# Altium schematic symbol library MetalDetector.SCHLIB: 35 symbols
Pins are listed as number, name and electrical type; pins without a type are passive.

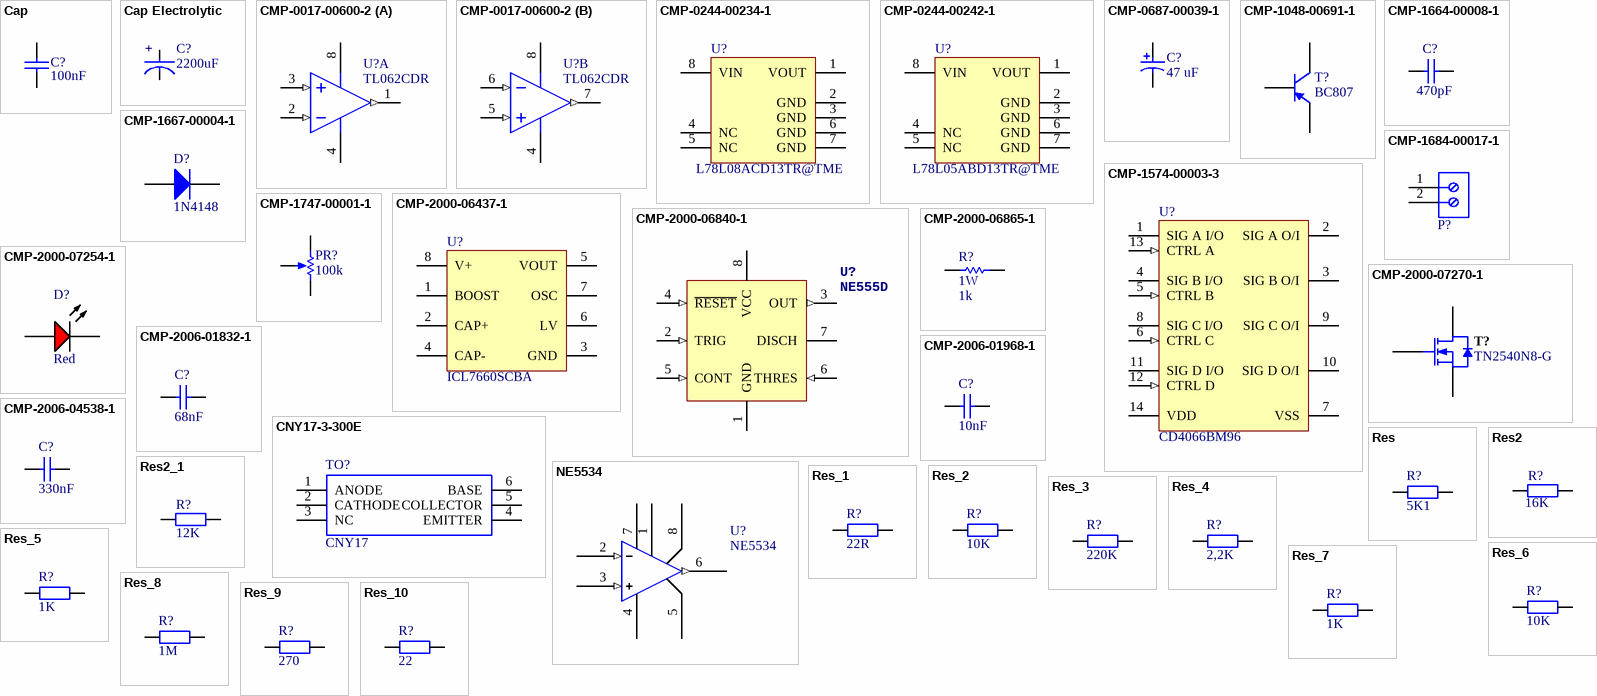
[diagram p0: symbols Cap to Res_10]

## Cap
designator C?, comment Capacitance: 100nF  (hidden comment: CL10B104KA8NNNC@TME)
Capacitor
footprint 0603
pins: 1, 2

## Cap Electrolytic
designator C?  Capacitance: 2200uF  (hidden comment: Cap Electrolytic)
CAPACITOR ALUM 2200UF 20% 35V RADIAL
footprint 18 X 25mm Radial 7.5mm ((18 X 25mm) Radial 7.5mm Cap Aluminum 2200uF 35V 20% 2740mA 5000h 105°C Ammo Pack)
pins: 1 -, 2 +

## CMP-0017-00600-2
designator U?, comment TL062CDR
Dual Low-Power JFET-Input General-Purpose Operational Amplifier, 7 to 36 V, 0 to 70 degC, 8-pin SOIC (D8), Green (RoHS & no Sb/Br); Manufacturer: Texas Instruments; Number of Channels: 2; Total Supply Voltage(Max)(+5V is 5, +/-5V is 10): 36; Vn at 1kHz(Typ)(nV/rtHz): 42; Slew Rate(Typ)(V/us): 3.5; Iq per channel(Max)(mA): 0.25; Offset Drift(Typ)(uV/C): 10; Rating: Catalog; Vio (25C)(Max)(mV): 15; Sub Family: General Purpose Amplifier, High Supply Voltage Amplifier (>=30V), Low Power Amp (<=500uA); Total Supply Voltage(Min)(+5V is 5, +/-5V is 10): 7; CMRR(Min)(dB): 70; GBW(Typ)(MHz): 1; IIB(Max)(pA): 400; ComponentLink2URL: http://www.ti.com/lit/ds/symlink/tl062.pdf; Eco-Plan: Green (RoHS & no Sb/Br); Code_JEDEC: MS-012; ComponentLink3URL: http://www.ti.com/litv/pdf/msoi002j; PackageVersion: 4040047-3/M, 06/2011; Mounting Technology: Surface Mount; DatasheetVersion: SLOS078J; ComponentLink3Description: Package Specification; PartNumber: TL062CDR; ComponentLink2Description: Datasheet; PackageReference: D0008A; PackageDescription: 8-Pin Plastic Small Outline, Body 4.9 x 3.9 mm, Pitch 1.27 mm; ComponentLink1Description: Manufacturer URL; ComponentLink1URL: http://www.ti.com/; Manufacturer Part Number: TL062CDR
footprint D0008A_N (SOIC, 8-Leads, Body 5x4mm, Pitch 1.27mm, IPC Medium Density)
footprint D0008A_L (SOIC, 8-Leads, Body 5x4mm, Pitch 1.27mm, IPC High Density)
footprint D0008A_M (SOIC, 8-Leads, Body 5x4mm, Pitch 1.27mm, IPC Low Density)
pins on every part: 4 VCC- (power), 8 VCC+ (power)
part A pins: 1 OUT1 (out), 2 IN1- (in), 3 IN1+ (in)
part B pins: 5 IN2+ (in), 6 IN2- (in), 7 OUT2 (out)

## CMP-0244-00234-1
designator U?, comment L78L08ACD13TR@TME
Positive Voltage Regulator, 8V, 8-Pin SO, Tape and Reel; Manufacturer: STMicroelectronics; PackageVersion: 1/12/2002; DatasheetVersion: 1/02/2011; Code_IPC: SOIC127P600-8; PackageDescription: 8-Pin Small Outline Integrated Circuit 1.27 mm Pitch; ComponentLink3Description: Package Specification; Code_JEDEC: MS-012-AA; PackageReference: SO8; ComponentLink3URL: http://www.st.com/internet/com/TECHNICAL_RESOURCES/TECHNICAL_LITERATURE/PACKAGE_INFORMATION/CD00004680.pdf; ComponentLink1Description: Manufacturer URL; ComponentLink2Description: Datasheet; ComponentLink2URL: http://www.st.com/internet/com/TECHNICAL_RESOURCES/TECHNICAL_LITERATURE/DATASHEET/CD00000446.pdf; ComponentLink1URL: http://www.st.com; Manufacturer Part Number: L78L08ACD13TR
footprint SO8_M (SOIC, 8-Leads, Body 4.9x3.9mm, Pitch 1.27mm, IPC Low Density)
footprint SO8_L (SOIC, 8-Leads, Body 4.9x3.9mm, Pitch 1.27mm, IPC High Density)
footprint SO8_N (SOIC, 8-Leads, Body 4.9x3.9mm, Pitch 1.27mm, IPC Medium Density)
pins: 1 VOUT (power), 2 GND (power), 3 GND (power), 4 NC, 5 NC, 6 GND (power), 7 GND (power), 8 VIN (power)

## CMP-0244-00242-1
designator U?, comment L78L05ABD13TR@TME
Positive Voltage Regulator, 5V, 8-Pin SO, Tape and Reel; Manufacturer: STMicroelectronics; ComponentLink2URL: http://www.st.com/internet/com/TECHNICAL_RESOURCES/TECHNICAL_LITERATURE/DATASHEET/CD00000446.pdf; ComponentLink3URL: http://www.st.com/internet/com/TECHNICAL_RESOURCES/TECHNICAL_LITERATURE/PACKAGE_INFORMATION/CD00004680.pdf; Code_IPC: SOIC127P600-8; PackageDescription: 8-Pin Small Outline Integrated Circuit 1.27 mm Pitch; ComponentLink3Description: Package Specification; ComponentLink2Description: Datasheet; DatasheetVersion: 1/02/2011; PackageVersion: 1/12/2002; Code_JEDEC: MS-012-AA; ComponentLink1URL: http://www.st.com; ComponentLink1Description: Manufacturer URL; PackageReference: SO8; Manufacturer Part Number: L78L05ABD13TR
footprint SO8_N (SOIC, 8-Leads, Body 4.9x3.9mm, Pitch 1.27mm, IPC Medium Density)
footprint SO8_M (SOIC, 8-Leads, Body 4.9x3.9mm, Pitch 1.27mm, IPC Low Density)
footprint SO8_L (SOIC, 8-Leads, Body 4.9x3.9mm, Pitch 1.27mm, IPC High Density)
pins: 1 VOUT (power), 2 GND (power), 3 GND (power), 4 NC, 5 NC, 6 GND (power), 7 GND (power), 8 VIN (power)

## CMP-0687-00039-1
designator C?, comment Rated Capacitance: 47 uF  (hidden comment: UUD1E470MCL1GS)
Aluminum Electrolytic Capacitor, UD Series, Low Impedance, 47 uF, 25 V, + / - 20%, -55 to 105 degC, Chip Type, 6.3 x 5.8 mm D x L, Pb-Free, Reel; Manufacturer: Nichicon; Rated Ripple Current (at 100kHz): 230 mA; Endurance Time: 2000 h; Packing: Dia382mm Reel; Rated Voltage: 25 V; Impedance: 0.44 Ohm; Tolerance Rated Capacitance: -20 to 20%; Mounting Technology: Surface Mount; Diameter: 6.3 mm; PartNumber: UUD1E470MCL1GS; ComponentLink3Description: Package Specification; ComponentLink2Description: Datasheet; PackageReference: CAPAE-D6.3H5.8; RoHS: TRUE; Length: 5.8 mm; ComponentLink1URL: http://www.nichicon.co.jp/; PackageDescription: 2-Pin Surface Mount Device, Diameter 6.3 mm, Height 5.8 mm, Pitch 5.4 mm; ComponentLink2URL: http://products.nichicon.co.jp/en/pdf/XJA043/e-ud.pdf; ComponentLink1Description: Manufacturer URL; ComponentLink3URL: http://products.nichicon.co.jp/en/pdf/XJA043/e-ud.pdf; DatasheetVersion: 08/2012; Manufacturer Part Number: UUD1E470MCL1GS
footprint NIC-CAPA2-6.3X5.8_V (Aluminum Electrolytic Capacitor, Diameter 6.3mm, Height 6.1mm, Pitch 5.4mm)
pins: 1, 2

## CMP-1048-00691-1
designator T?, comment BC807
General Purpose Transistor, PNP Silicon, 3-Pin SOT-23, Pb-Free, Tape and Reel; Manufacturer: On Semiconductor; PartNumber: BC807-25LT1G; IC Continuous (A): -0.5; fT Min (MHz): 100; PackageDescription: 3-Pin Small Outline Transistor, Body 2.92 x 1.3 mm, Pitch 0.95 mm; Polarity: PNP; ComponentLink2URL: http://www.onsemi.com/pub_link/Collateral/BC807-16LT1-D.PDF; PackageReference: SOT-23-3-318-08; ComponentLink2Description: Datasheet; ComponentLink1Description: Manufacturer URL; ComponentLink3URL: http://www.onsemi.cn/pub_link/Collateral/318-08.PDF; Packing: Tape and Reel; DatasheetVersion: Rev. 10; RoHS: TRUE; ComponentLink3Description: Package Specification; PackageVersion: Rev. AP, 11/2009; ComponentLink1URL: http://www.onsemi.com/; Mounting Technology: Surface Mount; Manufacturer: ON Semiconductor; Manufacturer Part Number: BC807-25LT1G
footprint ONSC-SOT-23-3-318-08_V (SOT23, 3-Leads, Body 2.92x1.3mm, Pitch 0.95mm)
pins: 1 B, 2 E, 3 C

## CMP-1574-00003-3
designator U?, comment CD4066BM96
CMOS Quad Bilateral Switch, D0014A, LARGE T&R; Manufacturer: Texas Instruments; Configuration: 4 X SPST (NO); Crosstalk: Yes; Ron(Max)(Ohms): 240; ICC(Typ)(mA): 0.00002; VCC(Min)(V): 3; Rating: Military; Ron(Typ)(Ohms): 125; Bandwidth(Max)(MHz): 40; VCC(Max)(V): 18; Operating Temperature Range(C): -55 to 125; Code_JEDEC: MS-012; DatasheetVersion: SCHS051D; PackageReference: D0014A; Output Type: CMOS; Generic Part Number: CD4066B; PackageVersion: http://www.ti.com/lit/ml/mpds177g/mpds177g.pdf; Manufacturer Part Number: CD4066BM96
footprint D0014A_M (SOIC, 14-Leads, Body 8.75x4mm, Pitch 1.27mm, IPC Low Density)
footprint D0014A_L (SOIC, 14-Leads, Body 8.75x4mm, Pitch 1.27mm, IPC High Density)
footprint D0014A_N (SOIC, 14-Leads, Body 8.75x4mm, Pitch 1.27mm, IPC Medium Density)
pins: 1 SIG A I/O, 2 SIG A O/I, 3 SIG B O/I, 4 SIG B I/O, 5 CTRL B (in), 6 CTRL C (in), 7 VSS (power), 8 SIG C I/O, 9 SIG C O/I, 10 SIG D O/I, 11 SIG D I/O, 12 CTRL D (in), 13 CTRL A (in), 14 VDD (power)

## CMP-1664-00008-1
designator C?, comment Capacitance: 470pF  (hidden comment: CC-470@TME)
Capacitor, Ceramic, 22 pF, +/-10 %, 100 V, -55 to 125 degC, 2-Pin THD, RoHS, Bulk; Manufacturer: KEMET; Manufacturer Part Number: C315C220K1G5TA; Max Input Voltage: 40 V; Min Input Voltage: 4.2 V; Output Current: 1.5 A; Output Voltage: 1.2 V; Outputs: 1; Case\Package: TO-220; RoHSCompliant: true; Min Operating Temperature: 0 degC; Max Operating Temperature: 125 degC; Package Quantity: 50; ComponentLink2URL: http://capacitoredge.kemet.com/capedge2/DataSheet/Datasheet-C315C220K1G5TA.pdf?pn=C315C220K1G5TA{BULK}; Radiation Hardening: No; Pins: 3; Length: 10.28 mm; ComponentLink1URL: http://www.kemet.com/; ComponentLink2Description: Datasheet; Height: 9.28 mm; REACH SVHC: No SVHC; ComponentLink1Description: Manufacturer URL; Max Ouput Current: 1.5 A; Weight: 0.08113 oz; Packaging: Rail/Tube; DatasheetVersion: Aug-16; Mount: Through Hole; PackageReference: C315-THT-2; Width: 4.82 mm; PackageDescription: 2-Pin Through Hole Device, Body 3.81 x 2.54 mm
footprint KEMT-C315-THT-2 (THD, 2-Leads, Body 3.81x2.54mm)
pins: 1, 2

## CMP-1667-00004-1
designator D?, comment 1N4148
1N4148WS-7-F / Fast Switching Diode, 75 V, 0.3 A, -65 to 150 degC, 2-Pin SOD323, RoHS, Tape and Reel; Manufacturer: Diodes; DatasheetVersion: Rev. 25-2, 03/2016; PackageDescription: 2-Pin Small Outline Diode, Body 1.7 x 1.3 mm; ComponentLink2Description: Datasheet; ComponentLink1URL: http://www.diodes.com/; PackageReference: SOD323-2; ComponentLink2URL: http://www.diodes.com/datasheets/ds30097.pdf; ComponentLink1Description: Manufacturer URL; Manufacturer Part Number: 1N4148WS-7-F
footprint DIOD-SOD323-2-A_V (SOD-323, 2-Leads, Body 1.7x1.3mm)
pins: 1 A, 2 K

## CMP-1684-00017-1
designator P?, comment 282836-2@TME  (value not drawn)
Female Header, Pitch 5 mm, 1 x 2 Position, Height 10 mm, Tail Length 3.5 mm, Rohs, Bulk; Manufacturer: TE Connectivity; Wire Gauge: 16-30AWG; Product Training Modules: Wire-to-BoardEurostyleTerminalBlocks; Clamp Material - Plating: Brass-NickelPlated; Voltage: 300V; Mating Orientation: HorizontalwithBoard; Current: 13.5A; Pitch: 0.197"(5.00mm); Screw Thread: M3; 3D Model: 282836-2.pdf; Other Names: 5ULV-02B / A98076; Dynamic Catalog: BuchananSeries; Number of Levels: 1; Torque - Screw: 0.68Nm(6Lb-In); Featured Product: EurostyleTerminalBlockConnectors; Positions Per Level: 2; Wire Termination: Screw-RisingCageClamp; Datasheet URL: http://www.te.com.cn/commerce/DocumentDelivery/DDEController?Action=showdoc&DocId=Catalog+Section%7F1308389_EUROSTYLE_TERMINAL_BLOCKS%7F0607%7Fpdf%7FEnglish%7FENG_CS_1308389_EUROSTYLE_TERMINAL_BLOCKS_0607.pdf%7F282836-2; Color: Green; Family: TerminalBlocks-WiretoBoard; RoHS Information: 282836-2StatementofCompliance; Standard Package: 300; Contact Material - Plating: Brass-TinPlated; Manufacturer URL: http://www.te.com; Housing Material: Polyamide(PA66),Nylon6/6; Features: Interlocking(Side); Package Description: Female Header, Pitch 5 mm, 1 x 2 Position, Height 10 mm, Tail Length 3.5 mm; Mounting Type: ThroughHole; Package Reference: THD; Packaging: Bulk; Series: Buchanan; Category: Connectors,Interconnects; Screw Material - Plating: Brass-NickelPlated; Manufacturer Part Number: 282836-2
footprint TECO-282836-2_V (Female Header, Pitch 5mm, 1 x 2 Position, Height 10mm)
pins: 1 + (power), 2 - (power)

## CMP-1747-00001-1
designator PR?, comment Resistance: 100k  (hidden comment: 3296W-1-104LF@TME)
Square Trimpot(R) Trimming Potentiometer, 10 KOhm, +/- 10%, 0.5 W, -55 to 125 degC, 3-Pin THD, RoHS, Tube; Manufacturer: Bourns; Manufacturer Part Number: 3296W-1-103LF; Voltage Rating: 75 V; Tolerance: 1%; Power Rating: 100 mW; Case\Package: 0603; Type (Resistor): Thick Film; PackageDescription: 3-Pin Through Hole Device, Body 9.53 x 4.83 mm, Pitch 2.54 mm; RoHSCompliant: true; Package Quantity: 5000; Case Code (Metric): 1608; PackageReference: 3296W; ComponentLink2Description: Datasheet; REACH SVHC: Unknown; Case Code (Imperial): 0603; ComponentLink1URL: http://www.bourns.com/; Width: 0.85 mm; Radiation Hardening: No; Min Operating Temperature: -55 degC; Mount: Surface Mount; ComponentLink1Description: Manufacturer URL; Max Operating Temperature: 155 degC; Weight: 7.1E-05 oz; Pins: 2; DatasheetVersion: May-16; Packaging: Tape and Reel; Height: 0.45 mm; Length: 1.55 mm; ComponentLink2URL: http://www.bourns.com/docs/Product-Datasheets/3296.pdf
footprint BOUR-3296W (THD, 3-Leads, Body 9.53x4.83mm, Pitch 2.54mm)
pins: 1 CCW, 2 S, 3 CW

## CMP-2000-06437-1
designator U?, comment ICL7660SCBA
Charge Pump Switching Regulator IC Positive or Negative Fixed, 1.5 to 12 V, 0 to 70 degC, RoHS, Tube; Manufacturer: Intersil; Number of Outputs: 1; Frequency - Switching: 10kHz,35kHz; Dynamic Catalog: InvertingIC; Current - Output: 45mA; Voltage - Input: 1.5V~12V; Output Type: Adjustable; Synchronous Rectifier: No; Voltage - Output: -1.5V~-12V,±3V~±24V; Package URL: http://www.intersil.com/content/dam/Intersil/documents/m8_1/m8.15.pdf; Standard Package: 98; Type: SwitchedCapacitor(ChargePump),Doubler,Inverting; Datasheet Version: 01/2013; Package Description: 8-Pin Small Outline Integrated Circuit, Body 4.9 x 3.9 mm, Pitch 1.27 mm; Category: IntegratedCircuits(ICs); Operating Temperature: 0°C~70°C; Mounting Technology: SurfaceMount; Package / Case: 8-SOIC(0.154",3.90mmWidth); Mounting Type: SurfaceMount; Series: -; Family: PMIC-VoltageRegulators-DCDCSwitchingRegulators; Packaging: Tube; PWM Type: -; Supplier Device Package: 8-SOIC; Datasheet URL: http://www.intersil.com/content/dam/intersil/documents/icl7/icl7660s-a.pdf; Package Reference: SOIC-8; Manufacturer URL: http://www.intersil.com/en.html; Manufacturer Part Number: ICL7660SCBA
footprint INTS-SOIC-8_V (SOIC, 8-Leads, Body 5x4mm, Pitch 1.27mm)
pins: 1 BOOST, 2 CAP+, 3 GND (power), 4 CAP-, 5 VOUT (power), 6 LV (power), 7 OSC, 8 V+ (power)

## CMP-2000-06840-1
designator U?, comment NE555D
Precision Timer, 4.5 to 16 V, 0 to 70 degC, 8-Pin SOIC (D), Green (RoHS & no Sb/Br), Tube; PartNumber: NE555; Manufacturer: Texas Instruments; Base Number: 555; No. of Timers: 1; Supply Voltage Min: 4.5V; Operating Frequency Max: 0.5MHz; Supply Voltage Range: 4.5Vto16V; No. of Pins: 8; Supply Voltage Max: 16V; IC Temperature Range: Commercial; SVHC: NoSVHC(19-Dec-2012); Operating Mode: Astable,Monostable; Frequency: 500kHz; Package Description: 8-Pin Small Outline Integrated Circuit, Body 4.9 x 3.9 mm, Pitch 1.27 mm; Datasheet URL: http://www.ti.com/general/docs/lit/getliterature.tsp?genericPartNumber=NE555&fileType=pdf; Mounting Technology: SurfaceMount; Operating Temperature Range: 0°Cto+70°C; Operating Temperature Min: 0°C; Package URL: http://www.ti.com/lit/ml/msoi002j/msoi002j.pdf; Datasheet Version: Rev. I, 09/2014; Manufacturer URL: http://www.ti.com/; Digital IC Case Style: SOIC; Clock External Input: No; Logic Function Number: 555; IC Generic Number: 555; No. of Channels: 1; Operating Temperature Max: 70°C; Package / Case: SOIC; Package Reference: D8; Device Marking: NE555D; Manufacturer Part Number: NE555D
footprint D0008A_N (SOIC, 8-Leads, Body 5x4mm, Pitch 1.27mm, IPC Medium Density)
footprint D0008A_L (SOIC, 8-Leads, Body 5x4mm, Pitch 1.27mm, IPC High Density)
footprint D0008A_M (SOIC, 8-Leads, Body 5x4mm, Pitch 1.27mm, IPC Low Density)
pins: 1 GND (power) "Ground", 2 TRIG (in) "Start of timing input.", 3 OUT (out) "High current timer output signal", 4 ~{RESET} (in) "Active low reset input forces output and discharge low.", 5 CONT (in) "Controls comparator thresholds, Outputs 2/3 VCC, allows bypass capacitor connection", 6 THRES (in) "End of timing input.", 7 DISCH (oc) "Open collector output to discharge timing capacitor", 8 VCC (power) "Input supply voltage, 4.5 V to 16 V."

## CMP-2000-06865-1
designator R?, comment 1W  Resistance (Ohms): 1k
PartNumber: OD103JE; Manufacturer: Ohmite; Power Rating: 0.25W; Power (Watts): 0.25W,1/4W; Tolerance: ±5%; Online Catalog: OD,OF,OASeries,LittleDemon®; Catalog Drawings: OD,OF,OASeries; EDA / CAD Models: DownloadfromAcceleratedDesigns; Mounting Technology: ThroughHole; Datasheet Version: 06/2016; RoHS Information: LittleDemon"E"SeriesMaterialDeclaration; Number of Terminations: 2; Temperature Coefficient: -; Height: -; Composition: CarbonComposition; Package Description: 2-Pin THD Resistor, Body 7 x 2.5 mm, Lead Dia. 0.6 mm; Size / Dimension: 0.098"Diax0.276"L(2.50mmx7.00mm); Category: Resistors; Manufacturer URL: http://www.ohmite.com/; Features: PulseWithstanding; Family: ThroughHoleResistors; Supplier Device Package: Axial; Package / Case: Axial; Standard Package: 100; Package Reference: RES7X2.5; Operating Temperature: -; Series: LittleDemon®OD; Datasheet URL: http://www.ohmite.com/cat/res_od_of_oa.pdf; Packaging: Bulk; Manufacturer Part Number: OD103JE
footprint OMTE-RES7X2.5-2 (Resistor, Axial; Body 7x2.5mm, Lead Dia. 0.6mm)
pins: 1, 2

## CMP-2000-07254-1
designator D?, comment LED Colour: Red  (hidden comment: TLMS1000-GS08)
Low Current LED, 40 mW, 1.8 V, -40 to 100 degC, 2-Pin SMD (0603), RoHS, Tape and Reel; Manufacturer: Vishay; Lens Shape: Rectangular; Automotive Qualification Standard: AEC-Q100; Wavelength Typ: 636nm; SVHC: ToBeAdvised; Bulb Size: 1.6mmx0.8mm; Forward Voltage: 1.8V; Luminous Intensity: 4mcd; Forward Current If: 2mA; Viewing Angle: 80°; Datasheet Version: Rev. 1.7, 02/2011; Datasheet URL: https://datasheet.ciiva.com/5798/1698881-5798337.pdf; LED Mounting: SMD; Packaging: CutTape; Package Reference: TLMS1000; Manufacturer URL: http://www.vishay.com/; Mounting Technology: SurfaceMount; Product Range: -; Package Description: 2-Pin Surface Mount Device, Body 1.6 x 0.8 mm; MSL: MSL2-1year; Manufacturer Part Number: TLMS1000-GS08
footprint VISH-TLMS1000_V (SMD, 2-Leads, Body 0.8x1.6mm)
pins: 1 A, 2 K

## CMP-2000-07270-1
designator T?, comment TN2540N8-G
N-Channel Enhancement-Mode Vertical DMOS FET, 2 V, 1 A, 12 Ohm, -55 to 150 degC, 3-Pin SOT-89, RoHS, Tape and Reel; Manufacturer: Microchip; Transistor Type: 1N-Channel; Number of Channels: 1Channel; Typical Turn-Off Delay Time: 25ns; Configuration: Single; Rise Time: 15ns; Vds - Drain-Source Breakdown Voltage: 400V; Brand: MicrochipTechnology; Typical Turn-On Delay Time: 20ns; Vgs - Gate-Source Voltage: 20V; Pd - Power Dissipation: 1.6W; Id - Continuous Drain Current: 260mA; Unit Weight: 0.001862oz; Rds On - Drain-Source Resistance: 12Ohms; Product Category: MOSFET; Package Description: 3-Piin Small Outline Transistor, Body 4.5 x 2.445 mm, Pitch 1.5 mm; Package Reference: TO-243AA; Length: 4.6mm; Manufacturer URL: http://www.microchip.com/; Type: FET; Packaging: Reel; Minimum Operating Temperature: -55C; Transistor Polarity: N-Channel; Technology: Si; Mounting Style: SMD/SMT; RoHS: True; Mounting Technology: SurfaceMount; Height: 1.6mm; Maximum Operating Temperature: +150C; Fall Time: 15ns; Package / Case: SOT-89-3; Product: MOSFETSmallSignal; Datasheet URL: http://ww1.microchip.com/downloads/en/DeviceDoc/TN2540%20A062113.pdf; Factory Pack Quantity: 2000; Datasheet Version: 08/2013; Width: 2.6mm; Channel Mode: Enhancement; Manufacturer Part Number: TN2540N8-G
footprint MCHP-TO-243AA_N8_L (SOT89, 3-Leads, Body 4.6x2.6mm, Pitch 1.5mm, Lead Span 4.1mm, IPC High Density)
footprint MCHP-TO-243AA_N8_M (SOT89, 3-Leads, Body 4.6x2.6mm, Pitch 1.5mm, Lead Span 4.1mm, IPC Low Density)
footprint MCHP-TO-243AA_N8_N (SOT89, 3-Leads, Body 4.6x2.6mm, Pitch 1.5mm, Lead Span 4.1mm, IPC Medium Density)
pins: 1 G, 2 D, 3 S

## CMP-2006-01832-1
designator C?, comment Capacitance: 68nF  (hidden comment: VJ0603Y683KXJCW1BC)
Manufacturer: Vitramon; Manufacturer: Vishay Vitramon; Part Number: VJ0603Y683KXJCW1BC; Manufacturer Part Number: VJ0603Y683KXJCW1BC
footprint CAPC1608X95X40NL15T15 (Chip Capacitor, 2-Leads, Body 1.60x0.80mm, IPC Medium Density)
footprint CAPC1608X95X40ML15T15 (Chip Capacitor, 2-Leads, Body 1.60x0.80mm, IPC Low Density)
footprint CAPC1608X95X40LL15T15 (Chip Capacitor, 2-Leads, Body 1.60x0.80mm, IPC High Density)
pins: 1, 2
1 alternate drawing of the same symbol

## CMP-2006-01968-1
designator C?, comment Capacitance: 10nF  (hidden comment: VJ0603Y103KNAAO)
Manufacturer: Vitramon; Manufacturer: Vishay Vitramon; Part Number: VJ0603Y103KNAAO; Manufacturer Part Number: VJ0603Y103KNAAO
footprint CAPC1608X92X38NL15T08 (Chip Capacitor, 2-Leads, Body 1.60x0.80mm, IPC Medium Density)
footprint CAPC1608X92X38LL15T08 (Chip Capacitor, 2-Leads, Body 1.60x0.80mm, IPC High Density)
footprint CAPC1608X92X38ML15T08 (Chip Capacitor, 2-Leads, Body 1.60x0.80mm, IPC Low Density)
pins: 1, 2
1 alternate drawing of the same symbol

## CMP-2006-04538-1
designator C?, comment value 330nF  (hidden comment: 0603YD334KAT2A)
Manufacturer: AVX Interconnect / Elco; Manufacturer: Kyocera AVX; Part Number: 0603YD334KAT2A; Manufacturer Part Number: 0603YD334KAT2A
footprint CAPC1608X90X35ML15T15 (Chip Capacitor, 2-Leads, Body 1.60x0.81mm, IPC Low Density)
footprint CAPC1608X90X35NL15T15 (Chip Capacitor, 2-Leads, Body 1.60x0.81mm, IPC Medium Density)
footprint CAPC1608X90X35LL15T15 (Chip Capacitor, 2-Leads, Body 1.60x0.81mm, IPC High Density)
pins: 1, 2
1 alternate drawing of the same symbol

## CNY17-3-300E
designator TO?, comment CNY17
Optocoupler DC i/p Transistor o/p DIP6GW Avago CNY17-3-300E DC Input Transistor Output Optocoupler, Surface Mount, 6-Pin PDIP; Manufacturer_Name: Avago Technologies; Geometry.Height: 4.6mm; Mouser Part Number: 630-CNY17-3-300E; Mouser Price/Stock: https://www.mouser.com/Search/Refine.aspx?Keyword=630-CNY17-3-300E; Manufacturer_Part_Number: CNY17-3-300E; Datasheet Link: https://componentsearchengine.com/Datasheets/2/CNY17-3-300E.pdf
footprint SOP254P1016X460-6N
pins: 1 ANODE, 2 CATHODE, 3 NC, 4 EMITTER, 5 COLLECTOR, 6 BASE

## NE5534
designator U?
footprint NE5534_footprint_byWierzba (NE5534)
footprint NE5534 FIXED
pins: 1 BALANCE, 2 IN- (in), 3 IN+ (in), 4 VCC- (power), 5 COMP, 6 OUT (out), 7 VCC+ (power), 8 COMP/BAL

## Res
designator R?, comment value 5K1  (hidden comment: 1206S4J0102T5E@TME)
Resistor
footprint R1206
pins: 1, 2

## Res2
designator R?, comment value 16K  (hidden comment: 1206S4J0163T5E@TME)
Resistor; Published: 8-Jun-2000; LatestRevisionDate: 17-Jul-2002; LatestRevisionNote: Re-released for DXP Platform.; PackageReference: AXIAL-0.4; Publisher: Altium Limited; PackageDescription: Axial Device, Thru-Hole; 2 Leads; 0.4 in Pin Spacing
footprint AXIAL-0.4 (Axial Device, Thru-Hole; 2 Leads; 0.4 in Pin Spacing)
simulation model RESISTOR (Resistor)
signal-integrity model Res
footprint R1206
pins: 1, 2

## Res2_1
designator R?, comment value 12K  (hidden comment: 1206S4J0123T5E@TME)
Resistor; Published: 8-Jun-2000; LatestRevisionDate: 17-Jul-2002; LatestRevisionNote: Re-released for DXP Platform.; PackageReference: AXIAL-0.4; Publisher: Altium Limited; PackageDescription: Axial Device, Thru-Hole; 2 Leads; 0.4 in Pin Spacing
footprint AXIAL-0.4 (Axial Device, Thru-Hole; 2 Leads; 0.4 in Pin Spacing)
simulation model RESISTOR (Resistor)
signal-integrity model Res
footprint R1206
pins: 1, 2

## Res_1
designator R?, comment value 22R  (hidden comment: 1206S4J0220T5E@TME)
Resistor
footprint R1206
pins: 1, 2

## Res_2
designator R?, comment value 10K  (hidden comment: 1206S4J0103T5E@TME)
Resistor
footprint R1206
pins: 1, 2

## Res_3
designator R?, comment value 220K  (hidden comment: 1206S4J0224T5E@TME)
Resistor
footprint R1206
pins: 1, 2

## Res_4
designator R?, comment value 2,2K  (hidden comment: 1206S4J0222T5E@TME)
Resistor
footprint R1206
pins: 1, 2

## Res_5
designator R?, comment value 1K  (hidden comment: 1206S4J0102T5E@TME)
Resistor
footprint R1206
footprint R0201
footprint R0402
footprint R0603
footprint R0805
pins: 1, 2

## Res_6
designator R?, comment value 10K  (hidden comment: Resistor)
footprint R1206
footprint R0201
footprint R0402
footprint R0603
footprint R0805
pins: 1, 2

## Res_7
designator R?, comment value 1K  (hidden comment: Resistor)
footprint R1206
footprint R0201
footprint R0402
footprint R0603
footprint R0805
pins: 1, 2

## Res_8
designator R?, comment value 1M  (hidden comment: 1206S4J0105T5E@TME)
Resistor
footprint R1206
footprint R0201
footprint R0402
footprint R0603
footprint R0805
pins: 1, 2

## Res_9
designator R?, comment value 270  (hidden comment: 1206S4J0271T5E@TME)
Resistor
footprint R1206
footprint R0201
footprint R0402
footprint R0603
footprint R0805
pins: 1, 2

## Res_10
designator R?, comment value 22  (hidden comment: 1206S4J0220T5E@TME)
Resistor
footprint R1206
footprint R0201
footprint R0402
footprint R0603
footprint R0805
pins: 1, 2